# Altium footprint library PCB - LEADED - SOT-23 - TOSHIBA SOT-23F 3PIN.PCBLIB: 1 footprints
Each footprint in its own frame and in the unit in brackets; x right, y up, seen from the top. Pads: shape width x height; smd on the part's side, far side on the other; paste and mask are expansions set on the pad; w line width, h text height; cw(c..) or ccw(c..) is an arc to the next point about the centre after c.
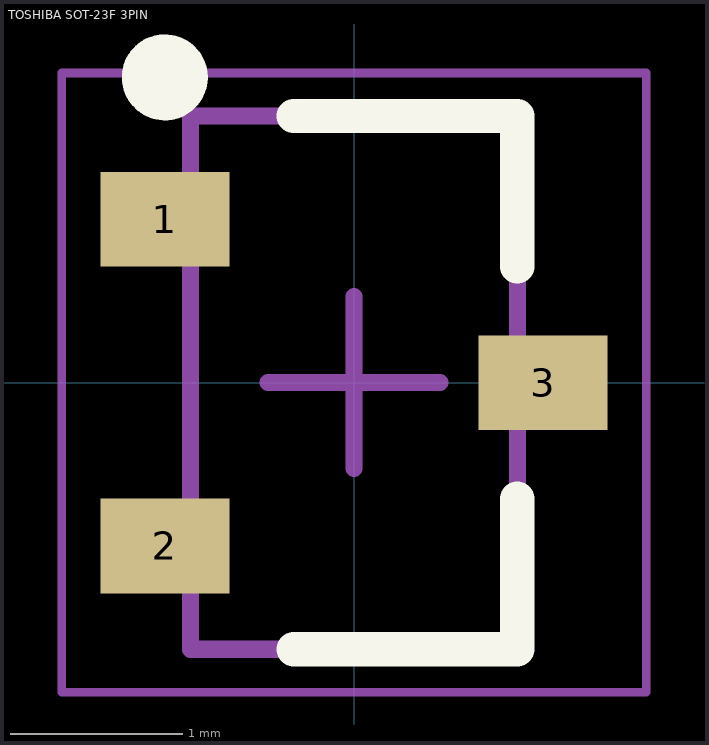
[diagram p0: the footprint, top view; thin cyan lines are the x and y axes]

## TOSHIBA SOT-23F 3PIN [mm] "SOT-23F, 3-Leads, Body 2.90x2.40mm, Pitch 0.95mm"
height 0.88
pads (3):
  rect 0.75x0.55 smd: 1(-1.1,0.95) 2(-1.1,-0.95) 3(1.1,0)
Top Overlay:
  circle w0.25: c-1.1,1.775 r0.125
  lines w0.2: -0.35,-1.55 0.95,-1.55 0.95,-0.675 ; -0.35,1.55 0.95,1.55 0.95,0.675
Mechanical 13:
  lines w0.1: -0.95,-1.55 -0.95,1.55 0.95,1.55 0.95,-1.55 -0.95,-1.55
Mechanical 15:
  lines w0.05: -1.7,-1.8 -1.7,1.8 1.7,1.8 1.7,-1.8 -1.7,-1.8
  lines w0.1: -0.5,0 0.5,0 ; 0,-0.5 0,0.5
3D body "TOSHIBA SOT-23F 3PIN.step": height 0.88, standoff 0, extent -1.2,-1.548 1.2,1.548